# Altium footprint library PCB - CONNECTORS - XKB - DC-005-5A-2.5-SMT.PCBLIB: 1 footprints
Each footprint in its own frame and in the unit in brackets; x right, y up, seen from the top. Pads: shape width x height; smd on the part's side, far side on the other; paste and mask are expansions set on the pad; w line width, h text height; cw(c..) or ccw(c..) is an arc to the next point about the centre after c.
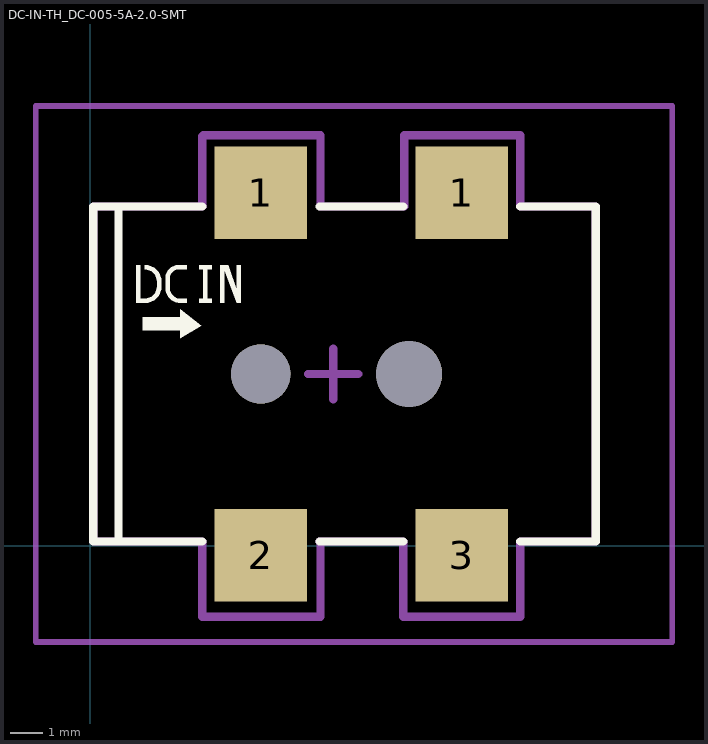
[diagram p0: the footprint, top view; thin cyan lines are the x and y axes]

## DC-IN-TH_DC-005-5A-2.0-SMT [mm]
pads (6):
  rect 2.8x2.8 smd: 1(5.173,10.707) 1(11.273,10.707) 2(5.173,-0.293) 3(11.273,-0.293)
  round 1.8 hole 1.8 unplated: ""(5.173,5.207)
  round 2 hole 2 unplated: ""(9.673,5.207)
Top Overlay:
  region: 1.587,6.921 2.73,6.921 2.73,7.175 3.365,6.667 2.73,6.286 2.73,6.54 1.587,6.54
  region: 3.937,8.509 3.937,7.366 4.064,7.366 4.064,8.382 4.445,7.366 4.572,7.366 4.572,8.509 4.445,8.509 4.445,7.747 4.191,8.509
  region: 3.302,8.509 3.302,8.382 3.429,8.382 3.429,7.493 3.302,7.493 3.302,7.366 3.683,7.366 3.683,7.493 3.556,7.493 3.556,8.382 3.683,8.382 3.683,8.509
  region: 2.667,8.509 2.591,8.509 2.451,8.451 2.344,8.344 2.286,8.204 2.286,8.128 2.286,7.747 2.302,7.677 2.371,7.552 2.472,7.451 2.597,7.382 2.667,7.366 2.921,7.366 2.921,7.493 2.667,7.493 2.623,7.509 2.543,7.557 2.477,7.623 2.429,7.703 2.413,7.747 2.413,8.128 2.418,8.178 2.456,8.269 2.526,8.339 2.617,8.377 2.667,8.382 2.921,8.382 2.921,8.509
  region: 1.397,8.509 1.397,7.366 1.651,7.366 1.752,7.366 1.939,7.443 2.082,7.586 2.159,7.773 2.159,7.874 2.159,8.001 2.159,8.102 2.082,8.289 1.939,8.432 1.752,8.509 1.651,8.509 1.651,8.382 1.725,8.375 1.863,8.318 1.968,8.213 2.025,8.075 2.032,8.001 2.032,7.874 2.025,7.8 1.968,7.662 1.863,7.557 1.725,7.5 1.651,7.493 1.524,7.493 1.524,8.509
  lines w0.254: 0.857,0.127 0.857,10.287 ; 3.397,0.127 0.095,0.127 0.095,10.287 3.397,10.287 ; 6.953,0.127 9.493,0.127 ; 6.953,10.287 9.493,10.287 ; 13.049,0.127 15.335,0.127 15.335,10.287 13.049,10.287
Top Assembly:
  lines w0.254: 0.095,0.127 3.397,0.127 3.397,-2.159 6.985,-2.159 6.985,0.127 6.953,0.127 9.493,0.127 9.493,-2.159 13.049,-2.159 13.049,0.127 15.335,0.127 15.335,10.287 13.049,10.287 13.049,12.446 9.525,12.446 9.525,10.287 9.493,10.287 6.985,10.287 6.985,12.446 3.429,12.446 3.397,12.414 3.397,10.287 0.095,10.287 0.095,0.127
Top Courtyard:
  lines w0.178: -1.651,-2.921 17.653,-2.921 17.653,13.335 -1.651,13.335 -1.651,-2.921
Top Designator (Mech9):
  text ".Designator" at 13.75,12.22 h1
Top Component Center:
  lines w0.254: 6.604,5.207 7.366,5.207 ; 7.366,4.445 7.366,5.969 7.366,5.207 ; 8.128,5.207 7.366,5.207
3D body "OBJ_DC-IN-TH_DC-005-5A-2.0-SMT.stp": height 5, standoff 0, extent 3961.352,-2998.027 3979.051,-2996.489
3D body "694108106102 (rev1).stp": height 11.09, standoff -1.11, extent 0.217,-1.043 14.917,11.457